# EAGLE library part 5786555-5 (library 5786555-5)
I/O Connectors 50 50SR VERT RCPT FL TOP ACT PN Source: Datasheet <http://www.te.com/commerce/DocumentDelivery/DDEController?Action=showdoc&DocId=Customer Drawing5786555A2pdfEnglishENG_CD_5786555_A2.pdf5786555-5>
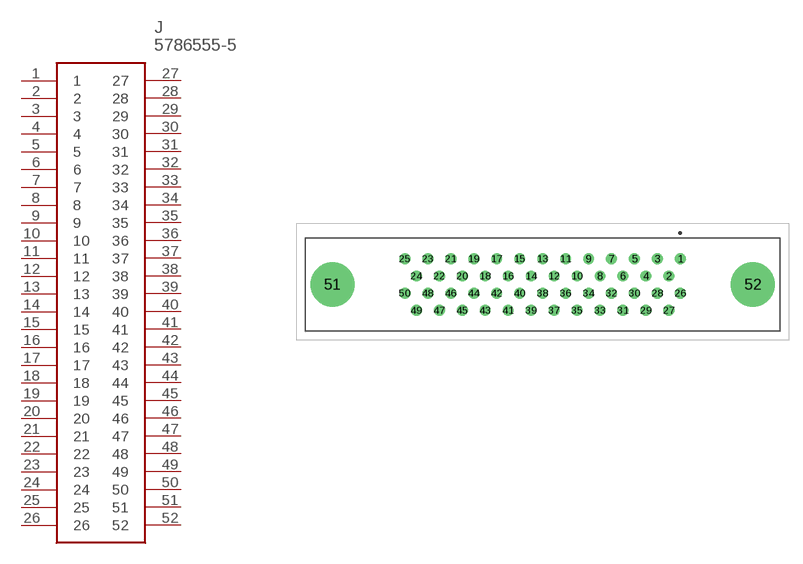
[diagram p0: symbol with the pads of 57865555; footprint 57865555]

Designator prefix J

## 5786555-5 (Description: I/O Connectors 50 50SR VERT RCPT FL TOP ACT PN; Height: mm; Manufacturer_Name: TE Connectivity; Manufacturer_Part_Number: 5786555-5; Mouser_Part_Number: 571-5786555-5; Mouser_Price-Stock: https://www.mouser.com/Search/Refine.aspx?Keyword=571-5786555-5)  [57865555]
1  1
2  2
3  3
4  4
5  5
6  6
7  7
8  8
9  9
10  10
11  11
12  12
13  13
14  14
15  15
16  16
17  17
18  18
19  19
20  20
21  21
22  22
23  23
24  24
25  25
26  26
27  27
28  28
29  29
30  30
31  31
32  32
33  33
34  34
35  35
36  36
37  37
38  38
39  39
40  40
41  41
42  42
43  43
44  44
45  45
46  46
47  47
48  48
49  49
50  50
51  51
52  52

## Footprint 57865555 (pad centres in mm)
5786555-5
drill 0.701 pad 1.202: 1 -0.06,-0.073; 2 -1.33,-1.973; 3 -2.6,-0.073; 4 -3.87,-1.973; 5 -5.14,-0.073; 6 -6.41,-1.973; 7 -7.68,-0.073; 8 -8.95,-1.973; 9 -10.22,-0.073; 10 -11.49,-1.973; 11 -12.76,-0.073; 12 -14.03,-1.973; 13 -15.3,-0.073; 14 -16.57,-1.973; 15 -17.84,-0.073; 16 -19.11,-1.973; 17 -20.38,-0.073; 18 -21.65,-1.973; 19 -22.92,-0.073; 20 -24.19,-1.973; 21 -25.46,-0.073; 22 -26.73,-1.973; 23 -28,-0.073; 24 -29.27,-1.973; 25 -30.54,-0.073; 26 -0.06,-3.873; 27 -1.33,-5.772; 28 -2.6,-3.873; 29 -3.87,-5.772; 30 -5.14,-3.873; 31 -6.41,-5.772; 32 -7.68,-3.873; 33 -8.95,-5.772; 34 -10.22,-3.873; 35 -11.49,-5.772; 36 -12.76,-3.873; 37 -14.03,-5.772; 38 -15.3,-3.873; 39 -16.57,-5.772; 40 -17.84,-3.873; 41 -19.11,-5.772; 42 -20.38,-3.873; 43 -21.65,-5.772; 44 -22.92,-3.873; 45 -24.19,-5.772; 46 -25.46,-3.873; 47 -26.73,-5.772; 48 -28,-3.873; 49 -29.27,-5.772; 50 -30.54,-3.873
drill 3.26 pad 4.89: 51 -38.54,-2.923; 52 7.94,-2.923